# Altium footprint library AutoBike.PcbLib: 22 footprints (part 1 of 2)
Each footprint in its own frame and in the unit in brackets; x right, y up, seen from the top. Pads: shape width x height; smd on the part's side, far side on the other; paste and mask are expansions set on the pad; w line width, h text height; cw(c..) or ccw(c..) is an arc to the next point about the centre after c.
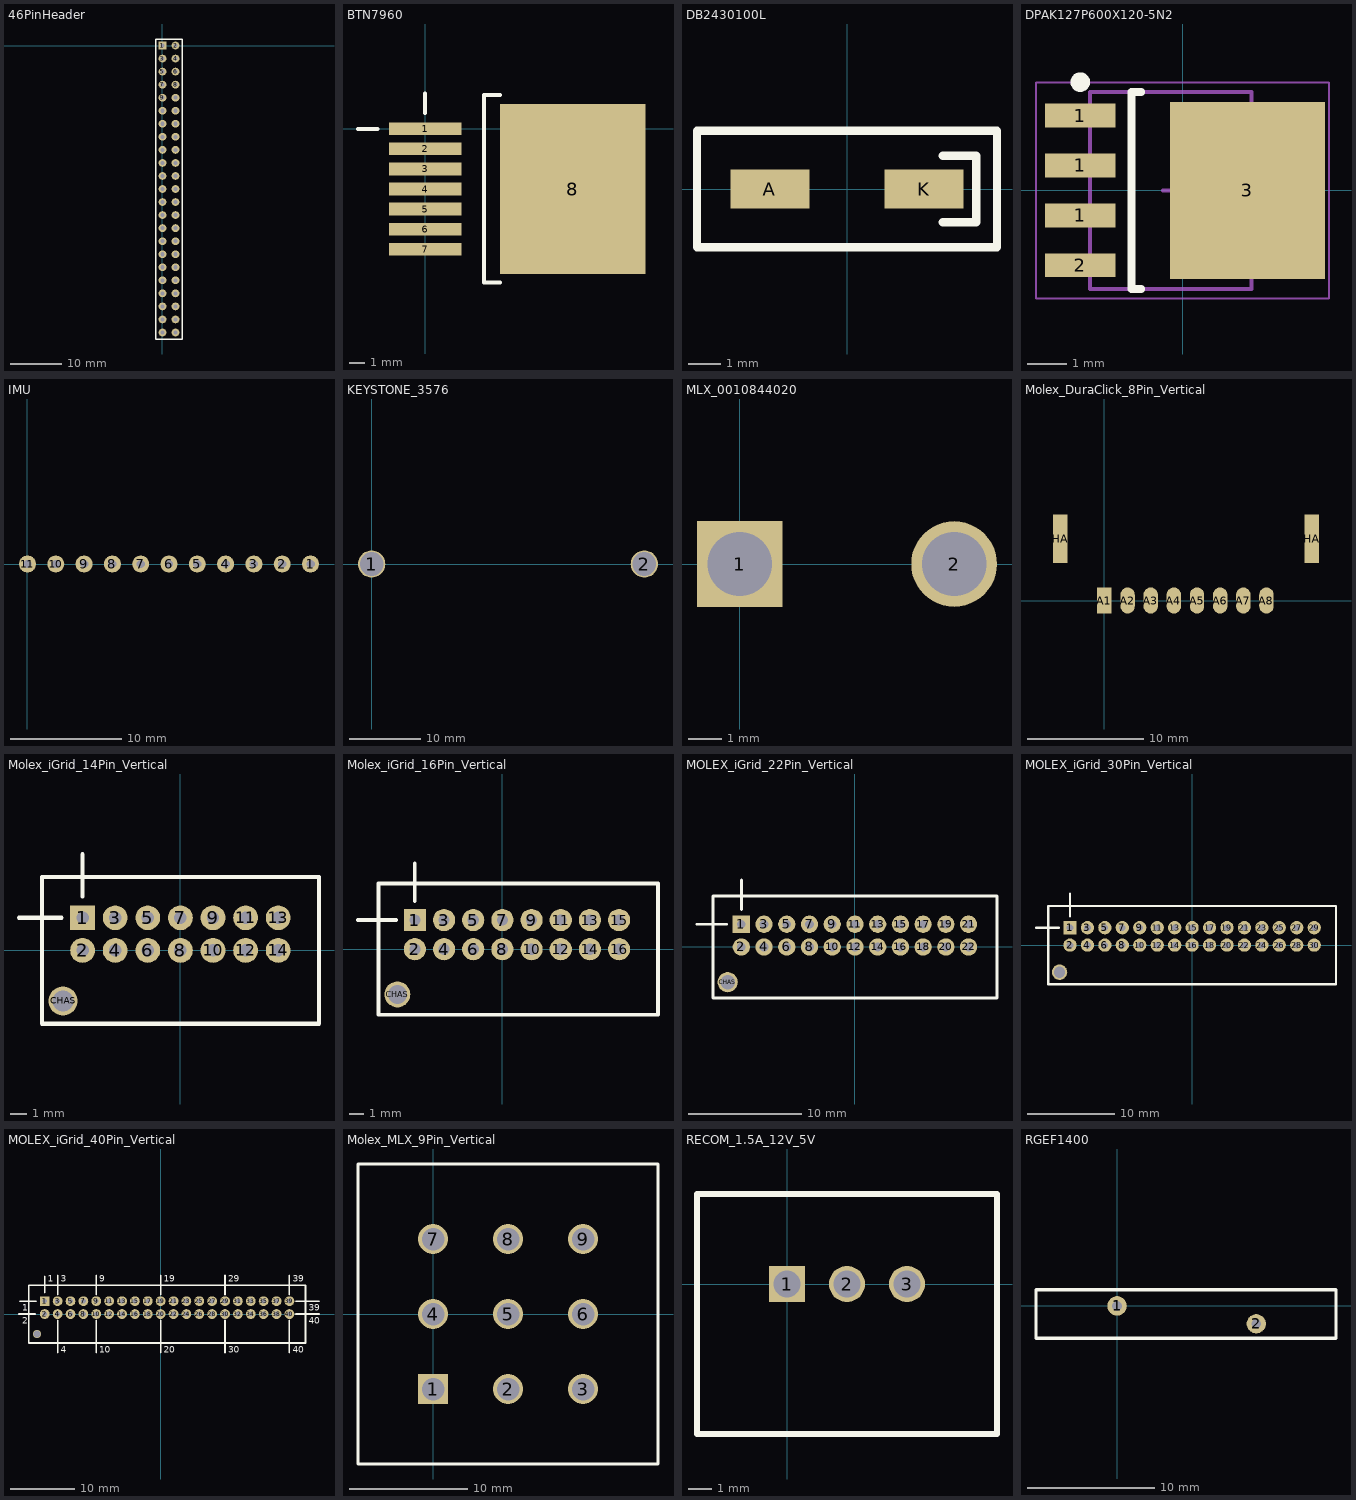
[diagram p0: the footprints below, top view; thin cyan lines are the x and y axes]

## 46PinHeader [mil]
pads (46):
  rect 60x60 hole 31.25: 1(0,0)
  round 60 hole 31.25: 2(100,0) 3(0,-100) 4(100,-100) 5(0,-200) 6(100,-200) 7(0,-300) 8(100,-300) 9(0,-400) 10(100,-400) 11(0,-500) 12(100,-500) 13(0,-600) 14(100,-600) 15(0,-700) 16(100,-700) 17(0,-800) 18(100,-800) 19(0,-900) 20(100,-900) 21(0,-1000) 22(100,-1000) 23(0,-1100) 24(100,-1100) 25(0,-1200) 26(100,-1200) 27(0,-1300) 28(100,-1300) 29(0,-1400) 30(100,-1400) 31(0,-1500) 32(100,-1500) 33(0,-1600) 34(100,-1600) 35(0,-1700) 36(100,-1700) 37(0,-1800) 38(100,-1800) 39(0,-1900) 40(100,-1900) 41(0,-2000) 42(100,-2000) 43(0,-2100) 44(100,-2100) 45(0,-2200) 46(100,-2200)
Top Overlay:
  lines w10: -50,-2250 -50,50 150,50 150,-2250 -50,-2250

## BTN7960 [mm]
pads (8):
  rect 4.6x0.8 smd: 1(0,0) 2(0,-1.27) 3(0,-2.54) 4(0,-3.81) 5(0,-5.08) 6(0,-6.35) 7(0,-7.62)
  rect 9.197x10.8 smd: 8(9.363,-3.81)
Top Overlay:
  lines w0.254: -4.25,0 -3,0 ; 0,1 0,2.25 ; 4.75,-9.75 3.75,-9.75 3.75,2.15 4.75,2.15
3D body: height 4.4, standoff 0, extent 0.5,-8.8 12.5,1.2

## DB2430100L [mm] "DB24301"
pads (2):
  rect 2.4x1.2 smd: A(-2.35,0) K(2.35,0)
Top Overlay:
  lines w0.254: 2.921,-1.016 3.937,-1.016 3.937,1.016 2.921,1.016 ; -4.572,-1.778 4.572,-1.778 4.572,1.778 -4.572,1.778 -4.572,0.918 -4.572,-1.778
3D body: height 0.85, standoff 0, extent -2.362,-0.711 2.337,0.711

## DPAK127P600X120-5N2 [mm] "TO, 5-Pads, Body 5.15x5.86mm (max), IPC Medium Density"
height 1.2
pads (5):
  rect 1.8x0.6 smd: 1(-2.6,-0.635) 1(-2.6,0.635) 1(-2.6,1.905) 2(-2.6,-1.905)
  rect 3.946x4.5 smd: 3(1.651,0)
Top Overlay:
  circle w0.25: c-2.6,2.755 r0.125
  lines w0.2: -1.05,-2.5 -1.3,-2.5 -1.3,2.5 -1.05,2.5
Mechanical 13:
  lines w0.1: -2.35,-2.5 -2.35,2.5 1.75,2.5 1.75,-2.5 -2.35,-2.5
Mechanical 15:
  lines w0.05: -3.725,-2.75 -3.725,2.75 3.725,2.75 3.725,-2.75 -3.725,-2.75
  lines w0.1: -0.5,0 0.5,0 ; 0,-0.5 0,0.5
3D body: height 1.2, standoff 0.15, extent -2.35,-2.5 1.75,2.5

## IMU [mil]
pads (11):
  round 60 hole 30: 1(1000,0) 2(900,0) 3(800,0) 4(700,0) 5(600,0) 6(500,0) 7(400,0) 8(300,0) 9(200,0) 10(100,0) 11(0,0)
3D body: height 118.11, standoff 62.99, extent -51.18,-574.8 1055.12,39.37

## KEYSTONE_3576 [mil] "FUSE BLOCK CARTRIDGE 30A PCB"
pads (2):
  round 150 hole 130: 1(0,0) 2(1500,0)
3D body: height 778.18, standoff -69.82, extent -95.72,-357.56 1599.28,356.44

## MLX_0010844020 [mm] "6.35mm Pitch MLX™ Power Connector Header, Vertical, 2 Circuits, PA Polyamide Nylon 6/6 94V-2, Tin (Sn) Plating, White"
pads (2):
  rect 2.54x2.54 hole 1.905: 1(0,0)
  round 2.54 hole 1.905: 2(6.35,0)
3D body: height 14.73, standoff -4.19, extent -5.588,-5.08 11.938,3.81

## Molex_DuraClick_8Pin_Vertical [mm]
pads (10):
  rect 1.25x2.25 smd: A1(0,0)
  oval 1.25x2.25 smd: A2(2,0) A3(4,0) A4(6,0) A5(8,0) A6(10,0) A7(12,0) A8(14,0)
  rect 1.25x4.2 smd: CHAS(-3.81,5.334) CHAS(17.907,5.334)
3D body: height 7.97, standoff -0.03, extent -4.315,-1.016 18.285,8.134

## Molex_iGrid_14Pin_Vertical [mil] "2.00mm Pitch iGrid™ Wire-to-Board Header, Dual Row, Vertical, with PCB Locator, 14 Circuits, Lead-Free"
pads (15):
  rect 60x60 hole 30: 1(-236.22,78.74)
  round 60 hole 30: 2(-236.22,0) 3(-157.48,78.74) 4(-157.48,0) 5(-78.74,78.74) 6(-78.74,0) 7(0,78.74) 8(0,0) 9(78.74,78.74) 10(78.74,0) 11(157.48,78.74) 12(157.48,0) 13(236.22,78.74) 14(236.22,0)
  round 70 hole 51.18: CHAS(-283.46,-122.05)
Top Overlay:
  lines w10: -389.76,78.74 -287.4,78.74 ; -236.22,129.92 -236.22,232.28 ; -334.65,-177.17 334.65,-177.17 334.65,177.17 -334.65,177.17 -334.65,-177.17
3D body: height 482.28, standoff -116.14, extent -314.96,-161.42 314.96,161.42

## Molex_iGrid_16Pin_Vertical [mil] "2.00mm Pitch iGrid™ Wire-to-Board Header, Dual Row, Vertical, with PCB Locator, 16 Circuits, Lead-Free"
pads (17):
  rect 60x60 hole 30: 1(-236.22,78.74)
  round 60 hole 30: 2(-236.22,0) 3(-157.48,78.74) 4(-157.48,0) 5(-78.74,78.74) 6(-78.74,0) 7(0,78.74) 8(0,0) 9(78.74,78.74) 10(78.74,0) 11(157.48,78.74) 12(157.48,0) 13(236.22,78.74) 14(236.22,0) 15(314.96,78.74) 16(314.96,0)
  round 70 hole 51.18: CHAS(-283.46,-122.05)
Top Overlay:
  lines w10: -389.76,78.74 -287.4,78.74 ; -236.22,129.92 -236.22,232.28 ; -334.65,-177.17 -334.65,177.17 420,177.17 420,-177.17 -334.65,-177.17
3D body: height 482.28, standoff -116.14, extent -315,-161.42 393.66,161.42

## MOLEX_iGrid_22Pin_Vertical [mil] "2.00mm Pitch iGrid™ Wire-to-Board Header, Dual Row, Vertical, with PCB Locator, 22 Circuits, Lead-Free"
pads (23):
  rect 60x60 hole 30: 1(-393.7,78.74)
  round 60 hole 30: 2(-393.7,0) 3(-314.96,78.74) 4(-314.96,0) 5(-236.22,78.74) 6(-236.22,0) 7(-157.48,78.74) 8(-157.48,0) 9(-78.74,78.74) 10(-78.74,0) 11(0,78.74) 12(0,0) 13(78.74,78.74) 14(78.74,0) 15(157.48,78.74) 16(157.48,0) 17(236.22,78.74) 18(236.22,0) 19(314.96,78.74) 20(314.96,0) 21(393.7,78.74) 22(393.7,0)
  round 70 hole 51.18: CHAS(-440.94,-122.05)
Top Overlay:
  lines w10: -547.24,78.74 -444.88,78.74 ; -393.7,129.92 -393.7,232.28 ; -492.13,-177.17 -492.13,177.17 492.13,177.17 492.13,-177.17 -492.13,-177.17
3D body: height 482.28, standoff -116.14, extent -472.44,-161.41 472.45,161.42

## MOLEX_iGrid_30Pin_Vertical [mil] "2.00mm Pitch iGrid™ Wire-to-Board Header, Dual Row, Vertical, with PCB Locator, 30 Circuits, Lead-Free"
height 472.44
pads (31):
  rect 60x60 hole 30: 1(-551.18,78.74)
  round 60 hole 30: 2(-551.18,0) 3(-472.44,78.74) 4(-472.44,0) 5(-393.7,78.74) 6(-393.7,0) 7(-314.96,78.74) 8(-314.96,0) 9(-236.22,78.74) 10(-236.22,0) 11(-157.48,78.74) 12(-157.48,0) 13(-78.74,78.74) 14(-78.74,0) 15(0,78.74) 16(0,0) 17(78.74,78.74) 18(78.74,0) 19(157.48,78.74) 20(157.48,0) 21(236.22,78.74) 22(236.22,0) 23(314.96,78.74) 24(314.96,0) 25(393.7,78.74) 26(393.7,0) 27(472.44,78.74) 28(472.44,0) 29(551.18,78.74) 30(551.18,0)
  round 70 hole 51.18: CHAS(-598.43,-122.05)
Top Overlay:
  lines w10: -704.72,78.74 -602.36,78.74 ; -551.18,129.92 -551.18,232.28 ; -649.61,-177.17 -649.61,177.17 649.61,177.17 649.61,-177.17 -649.61,-177.17
3D body: height 482.28, standoff -116.14, extent -629.91,-161.41 629.93,161.42

## MOLEX_iGrid_40Pin_Vertical [mil] "2.00mm Pitch iGrid™ Wire-to-Board Header, Dual Row, Vertical, with PCB Locator, 40 Circuits, Lead-Free"
height 472.44
pads (41):
  rect 60x60 hole 30: 1(-708.66,78.74)
  round 60 hole 30: 2(-708.66,0) 3(-629.92,78.74) 4(-629.92,0) 5(-551.18,78.74) 6(-551.18,0) 7(-472.44,78.74) 8(-472.44,0) 9(-393.7,78.74) 10(-393.7,0) 11(-314.96,78.74) 12(-314.96,0) 13(-236.22,78.74) 14(-236.22,0) 15(-157.48,78.74) 16(-157.48,0) 17(-78.74,78.74) 18(-78.74,0) 19(0,78.74) 20(0,0) 21(78.74,78.74) 22(78.74,0) 23(157.48,78.74) 24(157.48,0) 25(236.22,78.74) 26(236.22,0) 27(314.96,78.74) 28(314.96,0) 29(393.7,78.74) 30(393.7,0) 31(472.44,78.74) 32(472.44,0) 33(551.18,78.74) 34(551.18,0) 35(629.92,78.74) 36(629.92,0) 37(708.66,78.74) 38(708.66,0) 39(787.4,78.74) 40(787.4,0)
  round 50 hole 45: CHAS(-755.91,-122.05)
Top Overlay:
  lines w10: -866.14,0 -767.72,0 ; -862.2,78.74 -759.84,78.74 ; -708.66,129.92 -708.66,232.28 ; -629.92,-236.22 -629.92,-39.37 ; -629.92,118.11 -629.92,236.22 ; -393.7,-236.22 -393.7,-39.37 ; -393.7,118.11 -393.7,236.22 ; 0,-236.22 0,-39.37 ; 0,118.11 0,236.22 ; 393.7,-236.22 393.7,-39.37 ; 393.7,118.11 393.7,236.22 ; 787.4,-236.22 787.4,-39.37 ; 787.4,118.11 787.4,236.22 ; 826.77,0 968.5,0 ; 826.77,78.74 968.5,78.74 ; -807.09,-177.17 885.83,-177.17 885.83,177.17 -807.09,177.17 -807.09,-177.17
  text "4" at -610.24,-236.22 h40
  text "1" at -688.98,196.85 h40
  text "1" at -846.46,19.68 h40
  text "40" at 807.09,-236.22 h40
  text "39" at 807.09,196.85 h40
  text "29" at 413.39,196.85 h40
  text "30" at 413.39,-236.22 h40
  text "20" at 19.69,-236.22 h40
  text "19" at 19.69,196.85 h40
  text "9" at -374.02,196.85 h40
  text "10" at -374.02,-236.22 h40
  text "3" at -610.24,196.85 h40
  text "2" at -846.46,-59.06 h40
  text "39" at 905.51,19.68 h40
  text "40" at 905.51,-59.06 h40
3D body: height 482.28, standoff -116.14, extent -787.4,-162.4 866.14,160.43

## Molex_MLX_9Pin_Vertical [mm] "6.35mm Pitch MLX™ Power Connector Header, Vertical, 9 Circuits, PA Polyamide Nylon 6/6 94V-2, Tin (Sn) Plating, White"
pads (9):
  rect 2.54x2.54 hole 1.905: 1(0,-6.35)
  round 2.54 hole 1.905: 2(6.35,-6.35) 3(12.7,-6.35) 4(0,0) 5(6.35,0) 6(12.7,0) 7(0,6.35) 8(6.35,6.35) 9(12.7,6.35)
Top Overlay:
  lines w0.254: -6.35,-12.7 -6.35,12.7 19.05,12.7 19.05,-12.7 -6.35,-12.7
3D body: height 14.99, standoff -3.94, extent -5.08,-11.938 17.78,11.938

## RECOM_1.5A_12V_5V [mil] "Recom 12V to 5V dc/dc converter"
pads (3):
  rect 60x60 hole 45.28: 1(0,0)
  round 60 hole 45.28: 2(100,0) 3(200,0)
Top Overlay:
  lines w10: -150,-250 -150,150 350,150 350,-250 -150,-250
3D body: height 688.98, standoff 21.65, extent -150,-250 350,150

## RGEF1400 [mil] "PTC Current Limiter"
pads (2):
  round 60 hole 30: 1(0,0) 2(429.13,-55.12)
Top Overlay:
  lines w10: -250,-100 675,-100 675,50 -250,50 -250,-100
3D body: height 1098.43, standoff 157.48, extent -250,-50 675,0